# Altium schematic symbol library LQA16W140H19D8V2.SCHLIB: 16 symbols
Pins are listed as number, name and electrical type; pins without a type are passive.

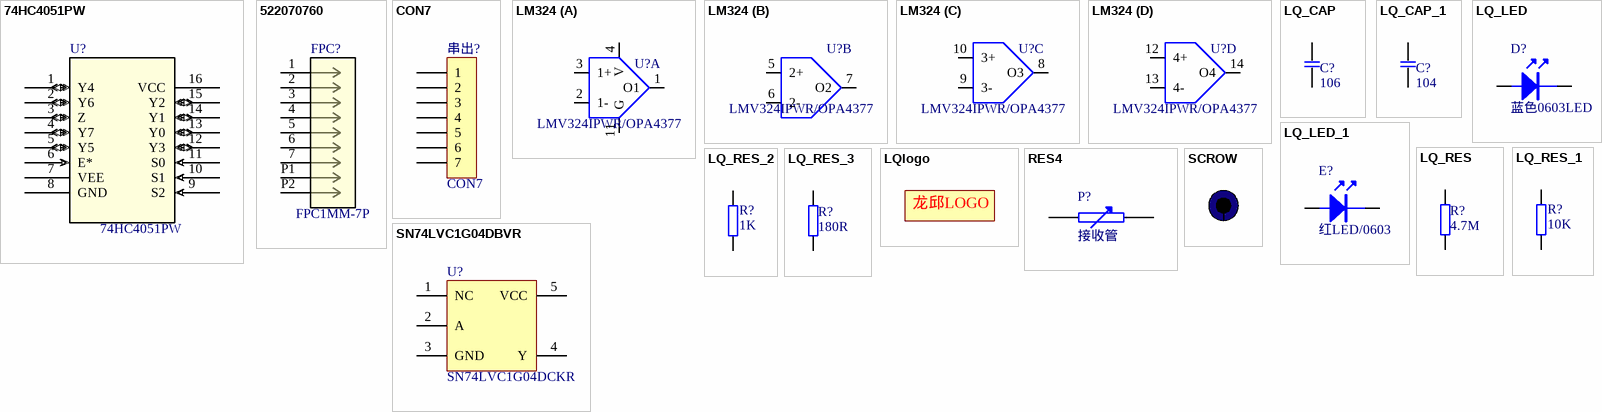
[diagram p0: symbols 74HC4051PW to SN74LVC1G04DBVR]

## 74HC4051PW
designator U?
No Description Available; Mfr_Name: NXP; RefDes: RefDes; Type: Type
footprint SOT403-1
footprint SOT403-1-M
pins: 1 Y4 (io), 2 Y6 (io), 3 Z (io), 4 Y7 (io), 5 Y5 (io), 6 E* (in), 7 VEE (power), 8 GND (power), 9 S2 (in), 10 S1 (in), 11 S0 (in), 12 Y3 (io), 13 Y0 (io), 14 Y1 (io), 15 Y2 (io), 16 VCC (power)

## 522070760
designator FPC?, comment FPC1MM-7P
Easy-On FFC/FPC Connector, 1.00mm Pitch, Slider Series, Right-Angle, Top  Contact, 2.70mm Height, 7 Circuits, Gold Plating; Manufacturer_Name: Molex Connector Corporation; Manufacturer_Part_Number: 522070760; Copyright: Copyright (C) 2025 Ultra Librarian. All rights reserved.; RefDes: RefDes; Type: Type
footprint CON_522070760_MOL
pins: 1, 2, 3, 4, 5, 6, 7, P1, P2

## CON7
designator 串出?
Connector
footprint LQ_SIP7
pins: 1, 2, 3, 4, 5, 6, 7

## LM324
designator U?, comment LMV324IPWR/OPA4377
footprint SO-14
footprint LQ_TSSOP14-OPA4377AIPW
part A pins: 1 O1, 2 1-, 3 1+, 4 V, 11 G
part B pins: 5 2+, 6 2-, 7 O2
part C pins: 8 O3, 9 3-, 10 3+
part D pins: 12 4+, 13 4-, 14 O4

## LQ_CAP
designator C?, comment 106
CAP
footprint LQ_0805
footprint LQ_0603
footprint LQ_1206
footprint LQ_C0603
pins: 1, 2

## LQ_CAP_1
designator C?, comment 104
CAP
footprint LQ_0805
footprint LQ_0603
footprint LQ_1206
footprint LQ_1210
footprint LQ_R0402
footprint LQ_C0402
pins: 1, 2

## LQ_LED
designator D?, comment 蓝色0603LED
footprint LQ_0805
footprint LQ_LED0603R
pins: 1, 2

## LQ_LED_1
designator E?, comment 红LED/0603
footprint LQ_0805
footprint LQ_LED
footprint LQ_LED3-2.54-
footprint LQ_LED0603R
pins: 1, 2

## LQ_RES
designator R?, comment 4.7M
RES
footprint LQ_0805
footprint LQ_R0402
footprint LQ_R0603
pins: 1, 2

## LQ_RES_1
designator R?, comment 10K
RES
footprint LQ_0805
footprint LQ_R0402
pins: 1, 2

## LQ_RES_2
designator R?, comment 1K
RES
footprint LQ_R0402
pins: 1, 2

## LQ_RES_3
designator R?, comment 180R
RES
footprint LQ_0805
footprint LQ_R0402
footprint LQ_R0603
pins: 1, 2

## LQlogo
designator LQlogo?  (value not drawn)
Connector
footprint LQ_SCROW3&5mm
footprint LOGO5X8MM
footprint LOGO5X8MM-TS
footprint LOGO2X3MMTS
footprint LOGO3X5MM
footprint LOGO3X5MMTS
footprint LOGO5X8MM
footprint LOGO5X8MM-TS
text: 龙邱LOGO

## RES4
designator P?, comment 接收管
footprint LQ_LED
footprint LQ_LED3-2.54-
footprint LQ_LED0603W
pins: 1, 2

## SCROW
designator SCROW?  (value not drawn)
Connector
footprint LQ_SCROW3&5mm
footprint LQ_SCROW2&3mm
footprint LQ_SCROW3&5mm-N
pins: 1, 1

## SN74LVC1G04DBVR
designator U?, comment SN74LVC1G04DCKR
SN74LVC1G04DBVR
footprint LQ_PDSO-G5-DCK065
pins: 1 NC, 2 A, 3 GND, 4 Y, 5 VCC